# EAGLE library part CON-USB-MINI-B (library dp_devices)
USB connector
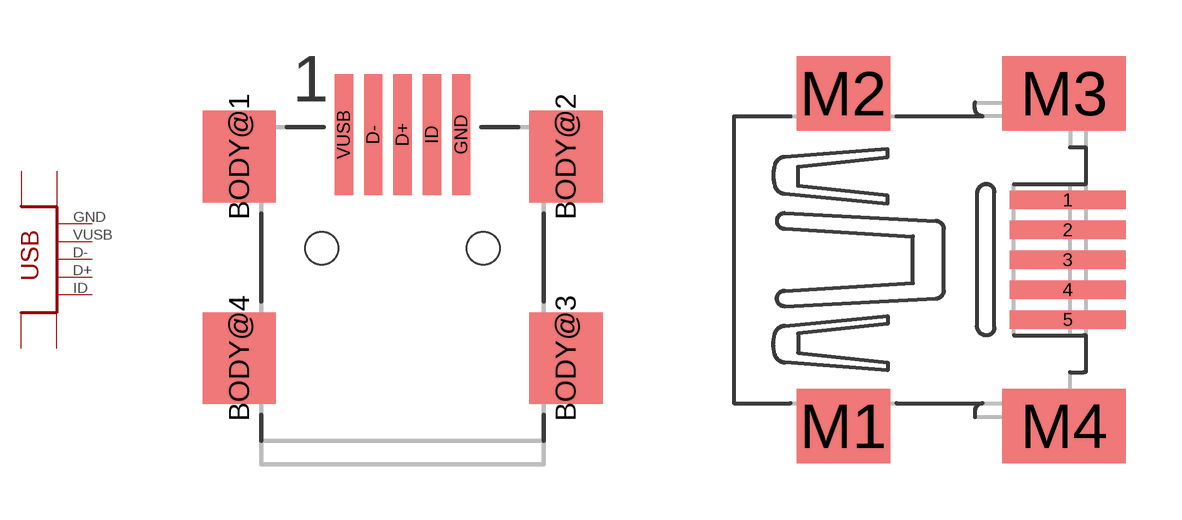
[diagram p10: symbol with the pads of CONN_USB_MINI-B; footprints CONN_USB_MINI-B, MINI-USBB]

Designator prefix USB; gates USB=CONN_USB BODY=USB_BODY_PINS

## CON-USB-MINI-BUSB1  [CONN_USB_MINI-B]
BODY@1  BODY:BODY  hiz
BODY@2  BODY:BODY  hiz
BODY@3  BODY:BODY  hiz
BODY@4  BODY:BODY  hiz
D+  USB:D+
D-  USB:D-
GND  USB:GND
ID  USB:USBID
VUSB  USB:VUSB

## CON-USB-MINI-BUSB2  [MINI-USBB]
1  USB:VUSB
2  USB:D-
3  USB:D+
4  USB:USBID
5  USB:GND
M1  BODY:BODY  hiz
M2  BODY:BODY  hiz
M3  BODY:BODY  hiz
M4  BODY:BODY  hiz

## Footprint CONN_USB_MINI-B (pad centres in mm)
USB mini-b connector SMT 0.8 mm pitch adjusted pad dimesion (0.5 x 3.3 mm) on pin 1 to 5
smd 2 x 2.5: BODY@1 -4.45,2.5; BODY@2 4.45,2.5; BODY@3 4.45,-3; BODY@4 -4.45,-3
smd 0.5 x 3.3: D+ 0,3.1; D- -0.8,3.1; GND 1.6,3.1; ID 0.8,3.1; VUSB -1.6,3.1
hole 0.9 at -2.2,0
hole 0.9 at 2.2,0

## Footprint MINI-USBB (pad centres in mm)
smd 3.1 x 0.5: 1 3,1.6; 2 3,0.8; 3 3,0; 4 3,-0.8; 5 3,-1.6
smd 2.5 x 2: M1 -3,-4.45; M2 -3,4.45
smd 3.3 x 2: M3 2.9,4.45; M4 2.9,-4.45